# EAGLE library part AXP203 (library AllWinner V3s)
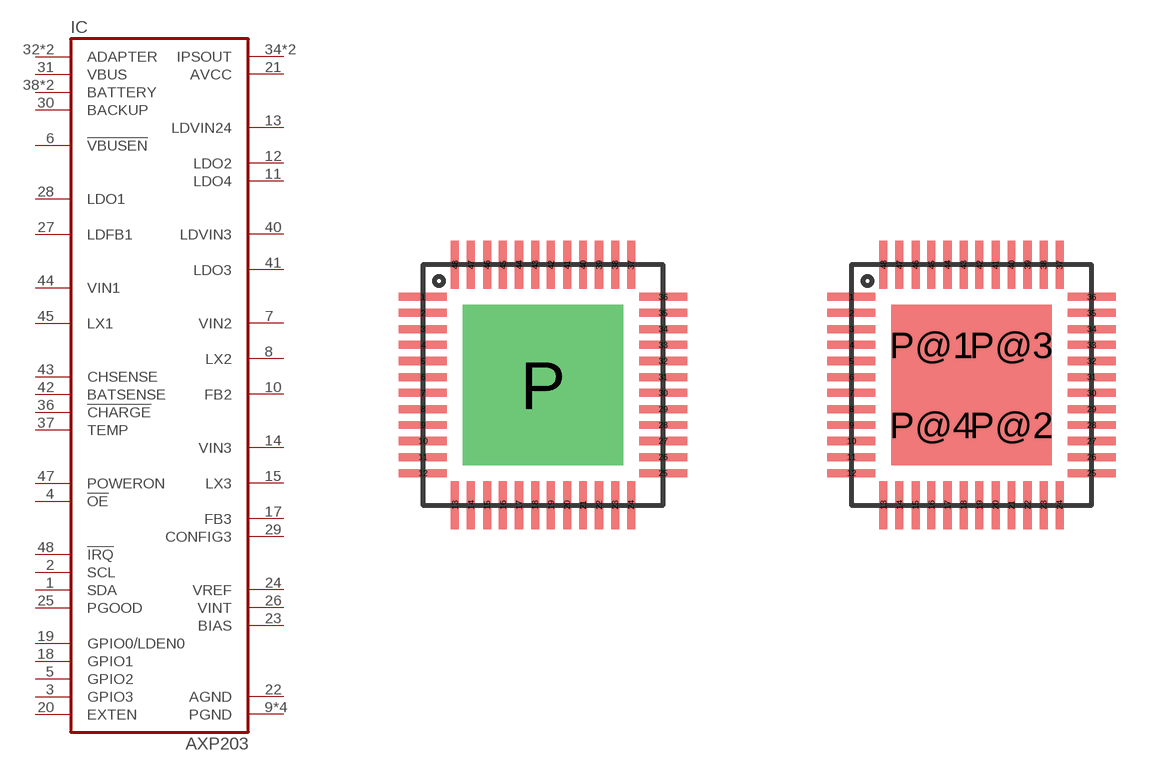
[diagram p0: symbol with the pads of QFN48-6X6-H; footprints QFN48-6X6-H, QFN48-6X6]

Designator prefix IC

## AXP203H  [QFN48-6X6-H]
1  SDA
2  SCL
3  GPIO3
4  !OE
5  GPIO2
6  !VBUSEN
7  VIN2
8  LX2
9  PGND
10  FB2
11  LDO4
12  LDO2
13  LDVIN24
14  VIN3
15  LX3
16  PGND
17  FB3
18  GPIO1
19  GPIO0/LDEN0
20  EXTEN
21  AVCC
22  AGND
23  BIAS
24  VREF
25  PGOOD
26  VINT
27  LDFB1
28  LDO1
29  CONFIG3
30  BACKUP
31  VBUS
32  ADAPTER
33  ADAPTER
34  IPSOUT
35  IPSOUT
36  !CHARGE
37  TEMP
38  BATTERY
39  BATTERY
40  LDVIN3
41  LDO3
42  BATSENSE
43  CHSENSE
44  VIN1
45  LX1
46  PGND
47  POWERON
48  !IRQ
P  PGND

## AXP203  [QFN48-6X6]
1  SDA
2  SCL
3  GPIO3
4  !OE
5  GPIO2
6  !VBUSEN
7  VIN2
8  LX2
9  PGND
10  FB2
11  LDO4
12  LDO2
13  LDVIN24
14  VIN3
15  LX3
16  PGND
17  FB3
18  GPIO1
19  GPIO0/LDEN0
20  EXTEN
21  AVCC
22  AGND
23  BIAS
24  VREF
25  PGOOD
26  VINT
27  LDFB1
28  LDO1
29  CONFIG3
30  BACKUP
31  VBUS
32  ADAPTER
33  ADAPTER
34  IPSOUT
35  IPSOUT
36  !CHARGE
37  TEMP
38  BATTERY
39  BATTERY
40  LDVIN3
41  LDO3
42  BATSENSE
43  CHSENSE
44  VIN1
45  LX1
46  PGND
47  POWERON
48  !IRQ
P@1  PGND
P@2  PGND
P@3  PGND
P@4  PGND

## Footprint QFN48-6X6-H (pad centres in mm)
smd 1.2 x 0.2: 1 -3,2.2; 2 -3,1.8; 3 -3,1.4; 4 -3,1; 5 -3,0.6; 6 -3,0.2; 7 -3,-0.2; 8 -3,-0.6; 9 -3,-1; 10 -3,-1.4; 11 -3,-1.8; 12 -3,-2.2; 25 3,-2.2; 26 3,-1.8; 27 3,-1.4; 28 3,-1; 29 3,-0.6; 30 3,-0.2; 31 3,0.2; 32 3,0.6; 33 3,1; 34 3,1.4; 35 3,1.8; 36 3,2.2
smd 0.2 x 1.2: 13 -2.2,-3; 14 -1.8,-3; 15 -1.4,-3; 16 -1,-3; 17 -0.6,-3; 18 -0.2,-3; 19 0.2,-3; 20 0.6,-3; 21 1,-3; 22 1.4,-3; 23 1.8,-3; 24 2.2,-3; 37 2.2,3; 38 1.8,3; 39 1.4,3; 40 1,3; 41 0.6,3; 42 0.2,3; 43 -0.2,3; 44 -0.6,3; 45 -1,3; 46 -1.4,3; 47 -1.8,3; 48 -2.2,3
drill 3 pad 4 square: P 0,0

## Footprint QFN48-6X6 (pad centres in mm)
smd 1.2 x 0.2: 1 -3,2.2; 2 -3,1.8; 3 -3,1.4; 4 -3,1; 5 -3,0.6; 6 -3,0.2; 7 -3,-0.2; 8 -3,-0.6; 9 -3,-1; 10 -3,-1.4; 11 -3,-1.8; 12 -3,-2.2; 25 3,-2.2; 26 3,-1.8; 27 3,-1.4; 28 3,-1; 29 3,-0.6; 30 3,-0.2; 31 3,0.2; 32 3,0.6; 33 3,1; 34 3,1.4; 35 3,1.8; 36 3,2.2
smd 0.2 x 1.2: 13 -2.2,-3; 14 -1.8,-3; 15 -1.4,-3; 16 -1,-3; 17 -0.6,-3; 18 -0.2,-3; 19 0.2,-3; 20 0.6,-3; 21 1,-3; 22 1.4,-3; 23 1.8,-3; 24 2.2,-3; 37 2.2,3; 38 1.8,3; 39 1.4,3; 40 1,3; 41 0.6,3; 42 0.2,3; 43 -0.2,3; 44 -0.6,3; 45 -1,3; 46 -1.4,3; 47 -1.8,3; 48 -2.2,3
smd 1.5 x 1.5: P@1 -1,1; P@2 1,-1; P@3 1,1; P@4 -1,-1